# EAGLE library part SN74HC595N (library OSPID)
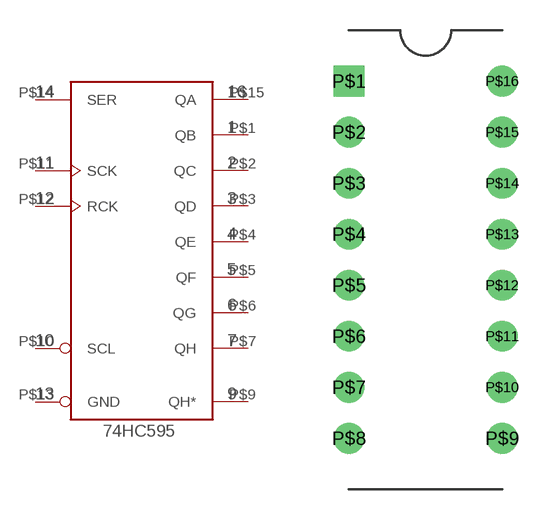
[diagram p0: symbol with the pads of DIP-16; footprint DIP-16]

Designator prefix -

## SN74HC595NDIP-16  [DIP-16]
P$1  QB
P$2  QC
P$3  QD
P$4  QE
P$5  QF
P$6  QG
P$7  QH
P$9  QH*
P$10  SCL  pwr
P$11  SCK  in
P$12  RCK  in
P$13  GND  pwr
P$14  SER  pwr
P$15  QA

## Footprint DIP-16 (pad centres in mm)
drill 1.016 square: P$1 -3.81,8.89
drill 1.016: P$2 -3.81,6.35; P$3 -3.81,3.81; P$4 -3.81,1.27; P$5 -3.81,-1.27; P$6 -3.81,-3.81; P$7 -3.81,-6.35; P$8 -3.81,-8.89; P$9 3.81,-8.89; P$10 3.81,-6.35; P$11 3.81,-3.81; P$12 3.81,-1.27; P$13 3.81,1.27; P$14 3.81,3.81; P$15 3.81,6.35; P$16 3.81,8.89